# EAGLE library part 10PIN-1.27MM-SMT (library IDC)
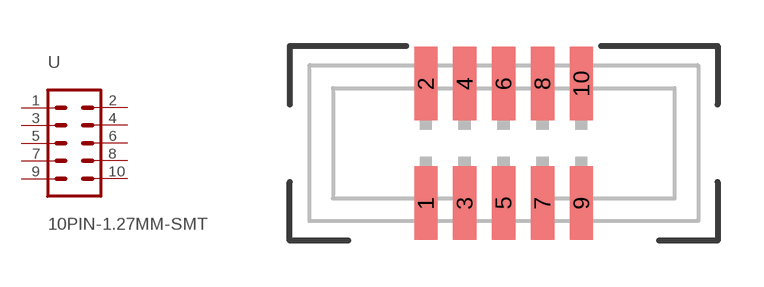
[diagram p2: symbol with the pads of 2X5-1.27MM-SMT; footprint 2X5-1.27MM-SMT]

Designator prefix -

## 10PIN-1.27MM-SMT  [2X5-1.27MM-SMT]
1  1  pas
2  2  pas
3  3  pas
4  4  pas
5  5  pas
6  6  pas
7  7  pas
8  8  pas
9  9  pas
10  10  pas

## Footprint 2X5-1.27MM-SMT (pad centres in mm)
1.27мм SMT разъем IDC на 10 пинов Удобно использовать для отладки Можно купить вот тут https://ru.aliexpress.com/item/32787313045.html
smd 0.76 x 2.4: 1 -2.54,-1.95; 2 -2.54,1.95; 3 -1.27,-1.95; 4 -1.27,1.95; 5 0,-1.95; 6 0,1.95; 7 1.27,-1.95; 8 1.27,1.95; 9 2.54,-1.95; 10 2.54,1.95